# EAGLE library part 648110131822 (library Wire-to-Board)
WR-WTB 1.50mm SMT Male Horizontal Shrouded Header, 10 Pins=>Code : Con_WTB_1.50_PCB_SMT_648110131822 <http://katalog.we-online.de/media/thumbs2/eican/thb_Con_WTB_1.50_PCB_SMT_6481xx131822_pf2.jpg> Details see: http://katalog.we-online.de/en/em/648_1xx_131_822 Created 2014-06-06, Karrer Zheng 2014 (C) Würth Elektronik
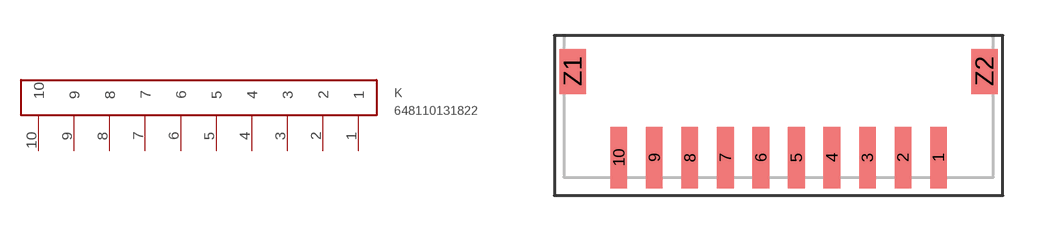
[diagram p52: symbol with the pads of 648110131822; footprint 648110131822]

Designator prefix K

## 648110131822  [648110131822]
1  1
2  2
3  3
4  4
5  5
6  6
7  7
8  8
9  9
10  10

## Footprint 648110131822 (pad centres in mm)
WR-WTB 1.50mm SMT Male Horizontal Shrouded Header, 10 Pins
smd 0.7 x 2.6: 1 12.75,0; 2 11.25,0; 3 9.75,0; 4 8.25,0; 5 6.75,0; 6 5.25,0; 7 3.75,0; 8 2.25,0; 9 0.75,0; 10 -0.75,0
smd 1.1 x 1.9: Z1 -2.7,3.65; Z2 14.7,3.65